# EAGLE library part MX150L-6PINS (library HyTechDevices)
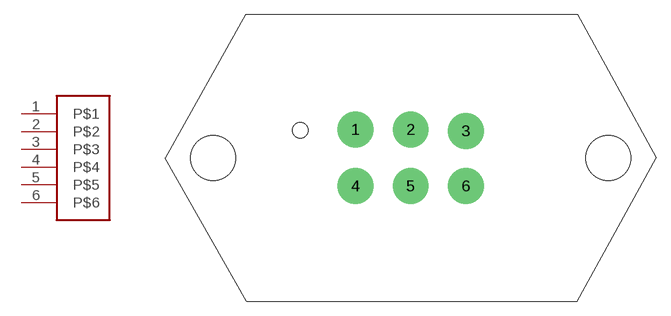
[diagram p62: symbol with the pads of MX150L_VERTICAL-6; footprint MX150L_VERTICAL-6]

Designator prefix -

## MX150L-6PINS  [MX150L_VERTICAL-6]
1  P$1
2  P$2
3  P$3
4  P$4
5  P$5
6  P$6

## Footprint MX150L_VERTICAL-6 (pad centres in mm)
drill 1.778 pad 3.81: 1 -5.842,2.997; 2 0,2.997; 3 5.842,2.845; 4 -5.842,-2.997; 5 0,-2.997; 6 5.842,-2.997
hole 1.651 at -11.684,2.921
hole 4.775 at -20.955,0
hole 4.775 at 20.955,0